# EAGLE library part HA1-4905-5 (library Intersil_By_element14_Batch_1)
Precision Quad Comparators
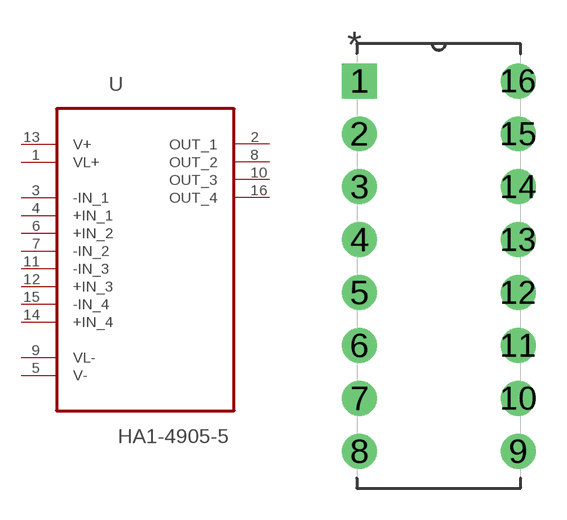
[diagram p85: symbol with the pads of DIP254P762X508-16; footprint DIP254P762X508-16]

Designator prefix U

## HA1-4905-5 (MPN: HA1-4905-5; OC_FARNELL: -; OC_NEWARK: 06F5181; PACKAGE: PDIP-16; SUPPLIER: Intersil)  [DIP254P762X508-16]
1  VL+  pwr
2  OUT_1  out
3  -IN_1  in
4  +IN_1  in
5  V-  pwr
6  +IN_2  in
7  -IN_2  in
8  OUT_2  out
9  VL-  pwr
10  OUT_3  out
11  -IN_3  in
12  +IN_3  in
13  V+  pwr
14  +IN_4  in
15  -IN_4  in
16  OUT_4  out

## Footprint DIP254P762X508-16 (pad centres in mm)
drill 1.118 square: 1 -7.62,17.78
drill 1.118: 2 -7.62,15.24; 3 -7.62,12.7; 4 -7.62,10.16; 5 -7.62,7.62; 6 -7.62,5.08; 7 -7.62,2.54; 8 -7.62,0; 9 0,0; 10 0,2.54; 11 0,5.08; 12 0,7.62; 13 0,10.16; 14 0,12.7; 15 0,15.24; 16 0,17.78